# EAGLE library part R-ARRAY-8_ (library Chromation)
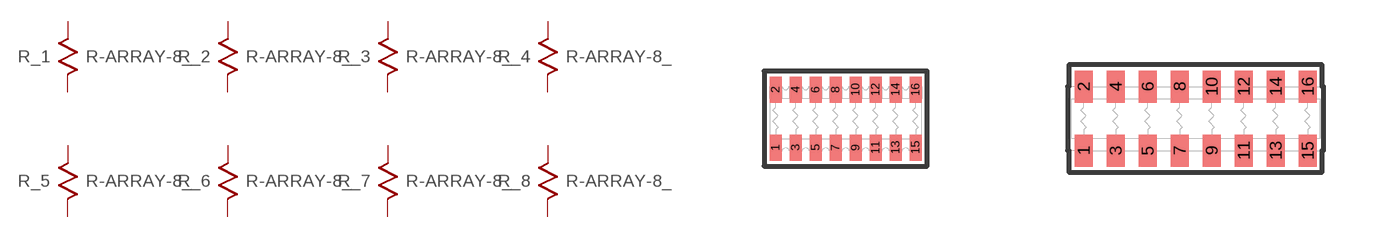
[diagram p6: symbol with the pads of R-ARRAY-1506; footprints R-ARRAY-1506, R-ARRAY-2406]

Designator prefix R; gates _1=RESISTOR _2=RESISTOR _3=RESISTOR _4=RESISTOR _5=RESISTOR _6=RESISTOR _7=RESISTOR _8=RESISTOR

## R-ARRAY-8_1506  [R-ARRAY-1506]
1  _1:1  pas
2  _1:2  pas
3  _2:1  pas
4  _2:2  pas
5  _3:1  pas
6  _3:2  pas
7  _4:1  pas
8  _4:2  pas
9  _5:1  pas
10  _5:2  pas
11  _6:1  pas
12  _6:2  pas
13  _7:1  pas
14  _7:2  pas
15  _8:1  pas
16  _8:2  pas

## R-ARRAY-8_2406  [R-ARRAY-2406]
Pads as for R-ARRAY-1506

## Footprint R-ARRAY-1506 (pad centres in mm)
smd 0.3 x 0.65: 1 -1.75,-0.725; 2 -1.75,0.725; 3 -1.25,-0.725; 4 -1.25,0.725; 5 -0.75,-0.725; 6 -0.75,0.725; 7 -0.25,-0.725; 8 -0.25,0.725; 9 0.25,-0.725; 10 0.25,0.725; 11 0.75,-0.725; 12 0.75,0.725; 13 1.25,-0.725; 14 1.25,0.725; 15 1.75,-0.725; 16 1.75,0.725

## Footprint R-ARRAY-2406 (pad centres in mm)
smd 0.45 x 0.8: 1 -2.8,-0.8; 2 -2.8,0.8; 3 -2,-0.8; 4 -2,0.8; 5 -1.2,-0.8; 6 -1.2,0.8; 7 -0.4,-0.8; 8 -0.4,0.8; 9 0.4,-0.8; 10 0.4,0.8; 11 1.2,-0.8; 12 1.2,0.8; 13 2,-0.8; 14 2,0.8; 15 2.8,-0.8; 16 2.8,0.8